# Altium schematic symbol library TR_PMOS_1G_2S_3D.Schlib: 1 symbol
Pins are listed as number, name and electrical type; pins without a type are passive.

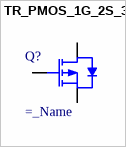
[diagram p0: symbol TR_PMOS_1G_2S_3D]

## TR_PMOS_1G_2S_3D
designator Q?  (value not drawn)
=description; Value: =_Name
pins: 1 G, 2 S, 3 D